# Altium footprint library bj Lib.PcbLib: 33 footprints (part 2 of 3)
Each footprint in its own frame and in the unit in brackets; x right, y up, seen from the top. Pads: shape width x height; smd on the part's side, far side on the other; paste and mask are expansions set on the pad; w line width, h text height; cw(c..) or ccw(c..) is an arc to the next point about the centre after c.
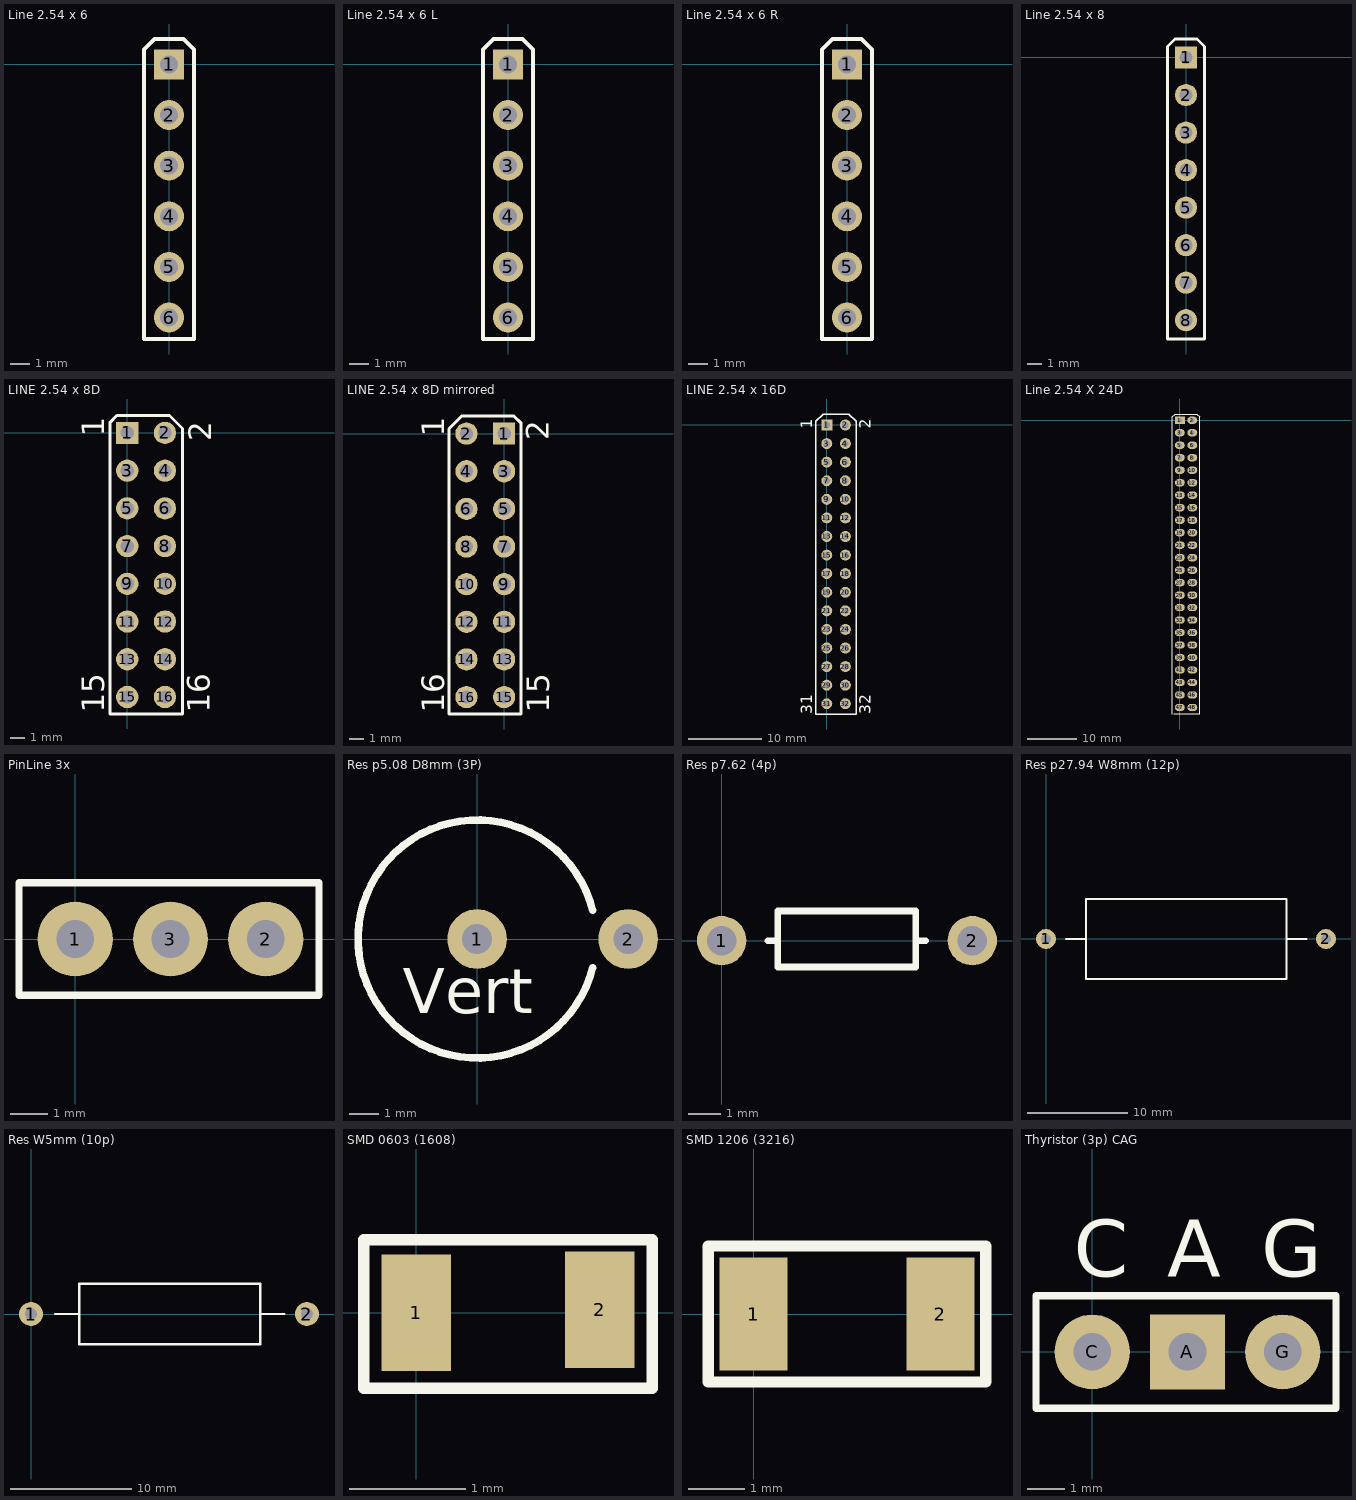
[diagram p1: the footprints below, top view; thin cyan lines are the x and y axes]

## Line 2.54 x 6 [mm]
pads (6):
  rect 1.5x1.5 hole 0.9: 1(0,0)
  round 1.5 hole 0.9: 2(0,-2.54) 3(0,-5.08) 4(0,-7.62) 5(0,-10.16) 6(0,-12.7)
Top Overlay:
  lines w0.2: -1.25,-13.775 1.25,-13.775 1.25,0.75 0.725,1.275 -0.725,1.275 -1.25,0.75 -1.25,-13.775
3D body: height 8.2, standoff -3, extent -1.249,-13.865 1.249,1.375

## Line 2.54 x 6 L [mm]
pads (6):
  rect 1.5x1.5 hole 0.9: 1(0,0)
  round 1.5 hole 0.9: 2(0,-2.54) 3(0,-5.08) 4(0,-7.62) 5(0,-10.16) 6(0,-12.7)
Top Overlay:
  lines w0.2: -1.25,-13.775 1.25,-13.775 1.25,0.75 0.725,1.275 -0.725,1.275 -1.25,0.75 -1.25,-13.775
3D body: height 2.5, standoff -3.04, extent -10.035,-8.885 0.325,1.275
3D body: height 2.5, standoff -3.04, extent -10.045,-13.97 0.315,-11.43
3D body: height 2.5, standoff -3.04, extent -10.045,-11.42 0.315,-8.88

## Line 2.54 x 6 R [mm]
pads (6):
  rect 1.5x1.5 hole 0.9: 1(0,0)
  round 1.5 hole 0.9: 2(0,-2.54) 3(0,-5.08) 4(0,-7.62) 5(0,-10.16) 6(0,-12.7)
Top Overlay:
  lines w0.2: -1.25,-13.775 1.25,-13.775 1.25,0.75 0.725,1.275 -0.725,1.275 -1.25,0.75 -1.25,-13.775
3D body: height 2.5, standoff -3.04, extent -0.325,-8.885 10.035,1.275
3D body: height 2.5, standoff -3.04, extent -0.325,-13.97 10.035,-11.43
3D body: height 2.5, standoff -3.04, extent -0.325,-11.42 10.035,-8.88

## Line 2.54 x 8 [mm]
pads (8):
  rect 1.5x1.5 hole 0.9: 1(0,0)
  round 1.5 hole 0.9: 2(0,-2.54) 3(0,-5.08) 4(0,-7.62) 5(0,-10.16) 6(0,-12.7) 7(0,-15.24) 8(0,-17.78)
Top Overlay:
  lines w0.2: -1.25,-19.05 -1.25,0.75 -0.75,1.25 0.75,1.25 1.25,0.75 1.25,-19.05 -1.25,-19.05
3D body: height 8.4, standoff -2.8, extent -1.248,-18.91 1.25,1.41

## LINE 2.54 x 8D [mm]
pads (16):
  rect 1.5x1.5 hole 0.9: 1(0,0)
  round 1.5 hole 0.9: 2(2.54,0) 3(0,-2.54) 4(2.54,-2.54) 5(0,-5.08) 6(2.54,-5.08) 7(0,-7.62) 8(2.54,-7.62) 9(0,-10.16) 10(2.54,-10.16) 11(0,-12.7) 12(2.54,-12.7) 13(0,-15.24) 14(2.54,-15.24) 15(0,-17.78) 16(2.54,-17.78)
Top Overlay:
  lines w0.2: -1.15,-18.925 3.725,-18.925 3.725,0.3 2.85,1.175 0.869,1.175 -0.7,1.175 -1.15,0.725 -1.15,-18.925
  text "16" at 5.55,-18.825 h1.52
  text "15" at -1.55,-18.85 h1.52
  text "2" at 5.65,-0.575 h1.52
  text "1" at -1.55,-0.25 h1.52
3D body: height 2.3, standoff -9.2, extent -1.265,-19.045 3.815,1.275

## LINE 2.54 x 8D mirrored [mm]
pads (16):
  rect 1.5x1.5 hole 0.9: 1(0,0)
  round 1.5 hole 0.9: 2(-2.54,0) 3(0,-2.54) 4(-2.54,-2.54) 5(0,-5.08) 6(-2.54,-5.08) 7(0,-7.62) 8(-2.54,-7.62) 9(0,-10.16) 10(-2.54,-10.16) 11(0,-12.7) 12(-2.54,-12.7) 13(0,-15.24) 14(-2.54,-15.24) 15(0,-17.78) 16(-2.54,-17.78)
Top Overlay:
  lines w0.2: -3.725,-18.925 1.15,-18.925 1.15,0.7 0.675,1.175 -1.481,1.175 -2.875,1.175 -3.725,0.325 -3.725,-18.925
  text "16" at -4.025,-18.85 h1.52
  text "15" at 3.05,-18.825 h1.52
  text "2" at 3,-0.45 h1.52
  text "1" at -4.05,-0.2 h1.52
3D body: height 2.3, standoff -9.2, extent -3.815,-19.045 1.265,1.275

## LINE 2.54 x 16D [mm]
pads (32):
  rect 1.5x1.5 hole 0.9: 1(0,0)
  round 1.5 hole 0.9: 2(2.54,0) 3(0,-2.54) 4(2.54,-2.54) 5(0,-5.08) 6(2.54,-5.08) 7(0,-7.62) 8(2.54,-7.62) 9(0,-10.16) 10(2.54,-10.16) 11(0,-12.7) 12(2.54,-12.7) 13(0,-15.24) 14(2.54,-15.24) 15(0,-17.78) 16(2.54,-17.78) 17(0,-20.32) 18(2.54,-20.32) 19(0,-22.86) 20(2.54,-22.86) 21(0,-25.4) 22(2.54,-25.4) 23(0,-27.94) 24(2.54,-27.94) 25(0,-30.48) 26(2.54,-30.48) 27(0,-33.02) 28(2.54,-33.02) 29(0,-35.56) 30(2.54,-35.56) 31(0,-38.1) 32(2.54,-38.1)
Top Overlay:
  lines w0.2: -1.5,-39.5 4,-39.5 4,0.5 3,1.5 0.544,1.5 -0.5,1.5 -1.5,0.5 -1.5,-39.5
  text "32" at 6,-39.5 h1.52
  text "31" at -2,-39.5 h1.52
  text "2" at 6,-0.5 h1.52
  text "1" at -2,-0.5 h1.52
3D body: height 8.5, standoff -3, extent -1.29,-39.345 3.79,1.295

## Line 2.54 X 24D [mm]
pads (48):
  rect 2x1.5 hole 0.9: 1(0,0)
  oval 2x1.5 hole 0.9: 2(2.54,0) 3(0,-2.54) 4(2.54,-2.54) 5(0,-5.08) 6(2.54,-5.08) 7(0,-7.62) 8(2.54,-7.62) 9(0,-10.16) 10(2.54,-10.16) 11(0,-12.7) 12(2.54,-12.7) 13(0,-15.24) 14(2.54,-15.24) 15(0,-17.78) 16(2.54,-17.78) 17(0,-20.32) 18(2.54,-20.32) 19(0,-22.86) 20(2.54,-22.86) 21(0,-25.4) 22(2.54,-25.4) 23(0,-27.94) 24(2.54,-27.94) 25(0,-30.48) 26(2.54,-30.48) 27(0,-33.02) 28(2.54,-33.02) 29(0,-35.56) 30(2.54,-35.56) 31(0,-38.1) 32(2.54,-38.1) 33(0,-40.64) 34(2.54,-40.64) 35(0,-43.18) 36(2.54,-43.18) 37(0,-45.72) 38(2.54,-45.72) 39(0,-48.26) 40(2.54,-48.26) 41(0,-50.8) 42(2.54,-50.8) 43(0,-53.34) 44(2.54,-53.34) 45(0,-55.88) 46(2.54,-55.88) 47(0,-58.42) 48(2.54,-58.42)
Top Overlay:
  lines w0.2: -1.5,-59.75 -1.5,0.75 -0.98,1.27 3.48,1.27 4,0.75 4,-59.69 -1.25,-59.69
3D body: height 8.6, standoff -2.9, extent -1.275,-59.685 3.805,-49.525
3D body: height 8.6, standoff -2.9, extent -1.265,-49.525 3.815,1.275

## PinLine 3x [mm]
pads (3):
  round 2 hole 1: 1(0,0) 2(5.08,0) 3(2.54,0)
Top Overlay:
  lines w0.2: -1.5,-1.5 -1.5,1.5 6.5,1.5 6.5,-1.5 -1.5,-1.5

## Res p5.08 D8mm (3P) [mm] "L p5.08 (3pin); Vertical"
height 20
pads (2):
  round 2 hole 1: 1(0,0) 2(5.08,0)
Top Overlay:
  lines w0.254: 3.881,-0.97 cw(c0,0) 3.881,0.97
  text "Vert" at -2.5,-2.5 h1.52

## Res p7.62 (4p) [mm] "L p7.62; horisontal"
height 2
pads (2):
  round 1.5 hole 0.9: 1(0,0) 2(7.62,0)
Top Overlay:
  lines w0.2: 1.4,0 1.7,0 ; 6,0 6.2,0 ; 1.7,0 1.7,-0.8 5.9,-0.8 5.9,0.9 1.7,0.9 1.7,0
3D body: height 2.1, standoff -1.9, extent -0.3,-1 7.8,1

## Res p27.94 W8mm (12p) [mm] "L p27.94 (11pin); horisontal"
height 8
pads (2):
  round 2 hole 1: 1(0,0) 2(27.94,0)
Top Overlay:
  lines w0.2: 2,0 4,0 ; 24,0 26,0 ; 4,0 4,-4 24,-4 24,4 4,4 4,0

## Res W5mm (10p) [mm] "L p22.86 (10pin); horisontal"
height 5
pads (2):
  round 2 hole 1: 1(0,0) 2(22.86,0)
Top Overlay:
  lines w0.2: 2,0 4,0 ; 19,0 21,0 ; 4,0 4,2.5 19,2.5 19,-2.5 4,-2.5 4,0

## SMD 0603 (1608) [mm]
height 0.55
pads (2):
  rect 0.6x1 smd: 1(0,0) 2(1.575,0.025)
Top Overlay:
  lines w0.1: -0.45,-0.65 2.025,-0.65 2.025,0.625 -0.45,0.625 -0.45,-0.65
3D body: height 0.45, standoff 0, extent 0.025,-0.4 1.575,0.45

## SMD 1206 (3216) [mm]
pads (2):
  rect 1.2x2 smd: 1(0,0) 2(3.3,0)
Top Overlay:
  lines w0.2: -0.8,-1.2 4.1,-1.2 4.1,1.2 -0.8,1.2 -0.8,-1.2
3D body: height 0.55, standoff 0, extent 0.05,-0.8 3.25,0.8

## Thyristor (3p) CAG [mm] "3 Pin in line (Cat-Anod-Gate)"
height 25
pads (3):
  rect 2x2 hole 1: A(2.54,0)
  round 2 hole 1: C(0,0) G(5.08,0)
Top Overlay:
  lines w0.2: -1.5,-1.5 -1.5,1.5 6.5,1.5 6.5,-1.5 -1.5,-1.5
  text "A" at 2,2 h1.52
  text "C" at -0.5,2 h1.52
  text "G" at 4.5,2 h1.52